# Altium schematic symbol library GD-GD32F103T.SchLib: 1 symbol
Pins are listed as number, name and electrical type; pins without a type are passive.

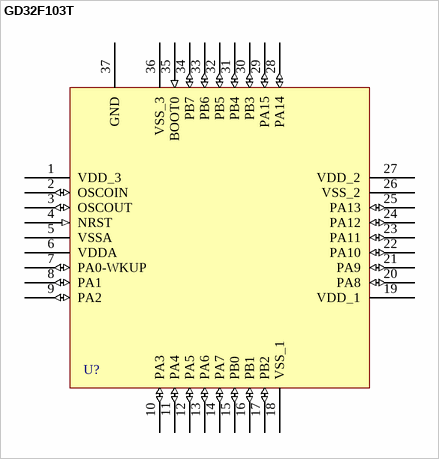
[diagram p0: symbol GD32F103T]

## GD32F103T
designator U?
pins: 1 VDD_3 (power), 2 OSCOIN (io), 3 OSCOUT (io), 4 NRST (in), 5 VSSA (power), 6 VDDA (power), 7 PA0-WKUP (io), 8 PA1 (io), 9 PA2 (io), 10 PA3 (io), 11 PA4 (io), 12 PA5 (io), 13 PA6 (io), 14 PA7 (io), 15 PB0 (io), 16 PB1 (io), 17 PB2 (io), 18 VSS_1 (power), 19 VDD_1 (power), 20 PA8 (io), 21 PA9 (io), 22 PA10 (io), 23 PA11 (io), 24 PA12 (io), 25 PA13 (io), 26 VSS_2 (power), 27 VDD_2 (power), 28 PA14 (io), 29 PA15 (io), 30 PB3 (io), 31 PB4 (io), 32 PB5 (io), 33 PB6 (io), 34 PB7 (io), 35 BOOT0 (in), 36 VSS_3 (power), 37 GND (power)